# Altium footprint library DAQ.PcbLib: 28 footprints (part 1 of 2)
Each footprint in its own frame and in the unit in brackets; x right, y up, seen from the top. Pads: shape width x height; smd on the part's side, far side on the other; paste and mask are expansions set on the pad; w line width, h text height; cw(c..) or ccw(c..) is an arc to the next point about the centre after c.
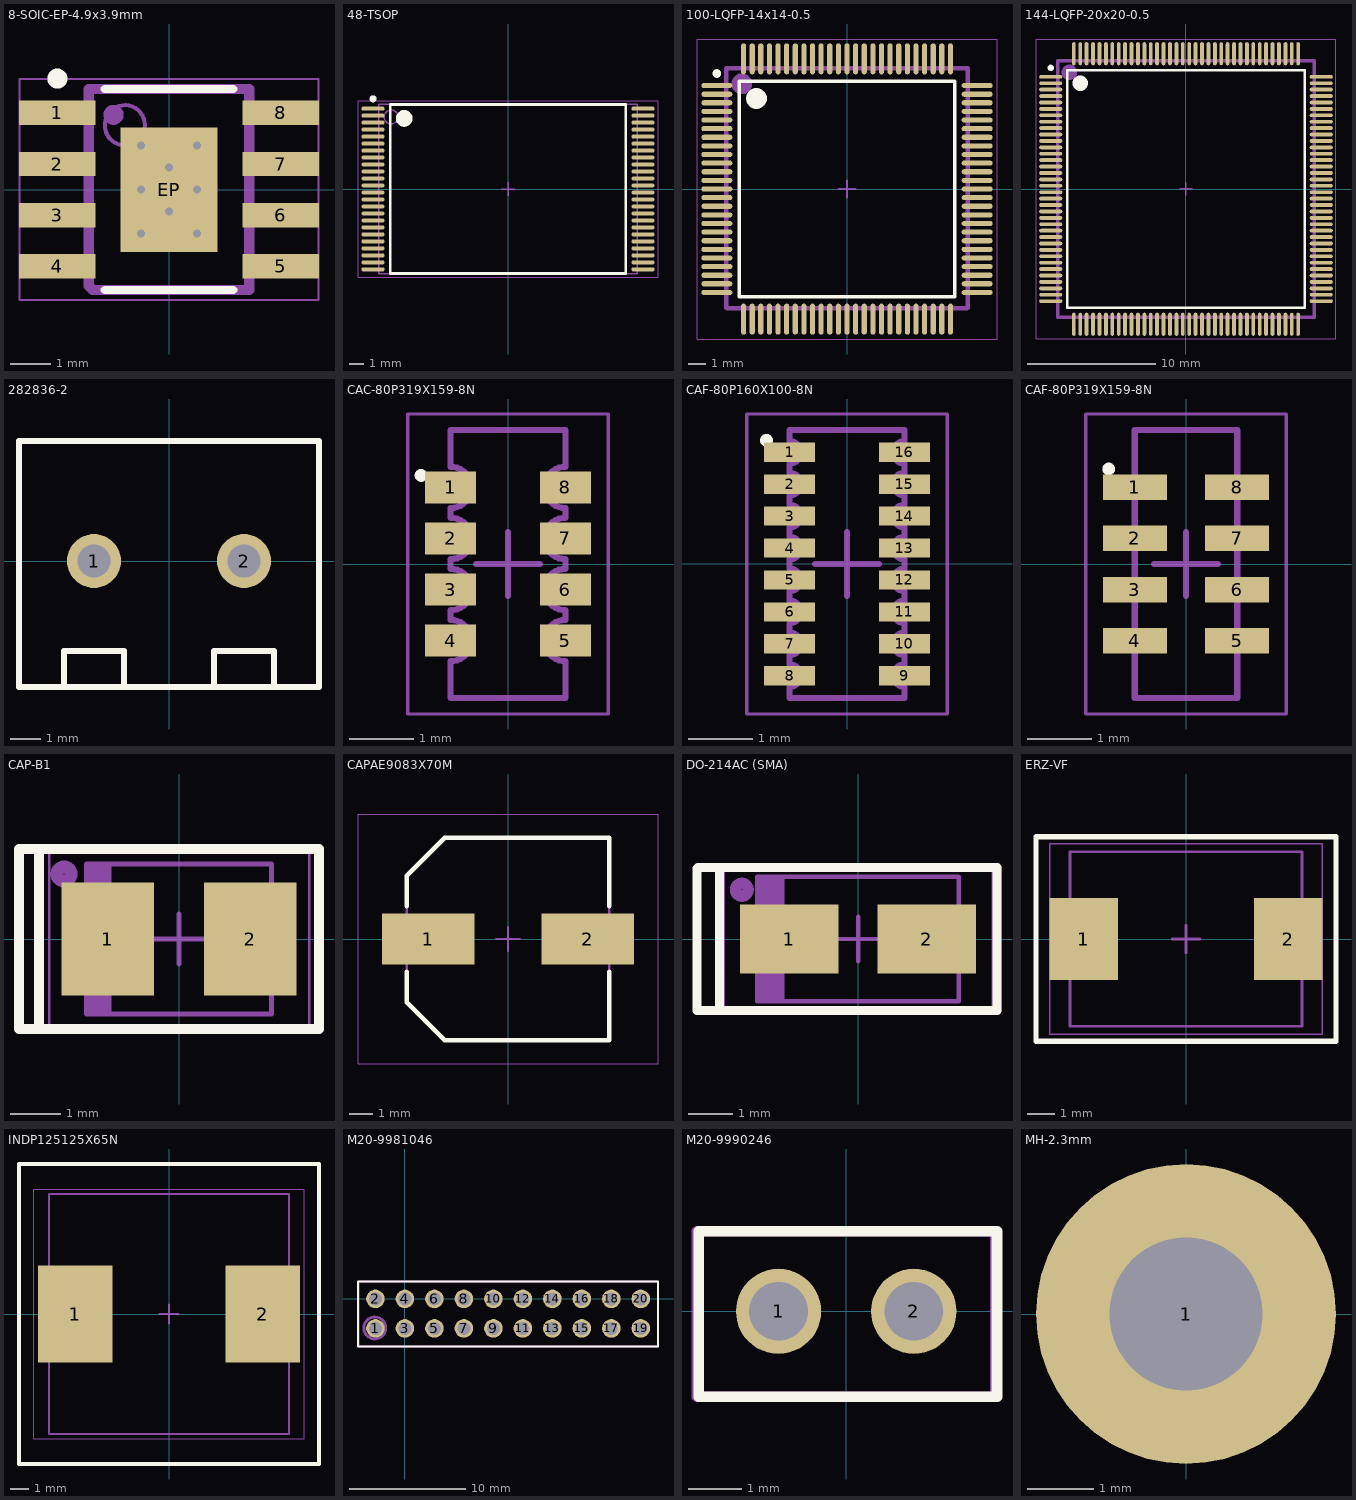
[diagram p0: the footprints below, top view; thin cyan lines are the x and y axes]

## 8-SOIC-EP-4.9x3.9mm [mm] "SOIC, 8-Leads, Body 4.90x3.90mm, Pitch 1.27mm, Thermal Pad 3.10x2.41mm, IPC Medium Density"
height 1.68
pads (9):
  rect 1.91x0.61 smd: 1(-2.78,1.905) 2(-2.78,0.635) 3(-2.78,-0.635) 4(-2.78,-1.905) 5(2.78,-1.905) 6(2.78,-0.635) 7(2.78,0.635) 8(2.78,1.905)
  rect 2.41x3.1 smd: EP(0,0)
via 0,-0.55 diameter 0.5 hole 0.2
via 0,0.55 diameter 0.5 hole 0.2
via 0.7,-1.1 diameter 0.5 hole 0.2
via -0.7,-1.1 diameter 0.5 hole 0.2
via 0.7,0 diameter 0.5 hole 0.2
via -0.7,0 diameter 0.5 hole 0.2
via 0.7,1.1 diameter 0.5 hole 0.2
via -0.7,1.1 diameter 0.5 hole 0.2
Top Overlay:
  circle w0.25: c-2.78,2.76 r0.125
  lines w0.2: -1.6,-2.5 1.6,-2.5 ; -1.6,2.5 1.6,2.5
Mechanical 13:
  circle w0.1: c-1.1,1.6 r0.5
  lines w0.1: -2,-2.5 2,-2.5 2,2.5 -2,2.5 -2,-2.5
Mechanical 15:
  lines w0.05: -3.725,-2.75 3.725,-2.75 3.725,2.75 -3.725,2.75 -3.725,-2.75
  lines w0.1: -0.5,0 0.5,0 ; 0,-0.5 0,0.5
Mechanical 29:
  circle w0.25: c-1.38,1.86 r0.125
  lines w0.254: -2,-2.4 -1.9,-2.5 2,-2.5 2,2.5 -2,2.5 -2,-2.4
  text ".Designator" at -0.7,1.1 h1.52
3D body: height 1.68, standoff 0.13, extent -2,-2.5 2,2.5

## 48-TSOP [mm] "TSOP, 48-Leads, Body 12.1x18.5mm, Pitch 0.5mm, IPC Medium Density"
height 1.2
pads (48):
  oval 1.65x0.3 smd: 1(-9.65,5.75) 2(-9.65,5.25) 3(-9.65,4.75) 4(-9.65,4.25) 5(-9.65,3.75) 6(-9.65,3.25) 7(-9.65,2.75) 8(-9.65,2.25) 9(-9.65,1.75) 10(-9.65,1.25) 11(-9.65,0.75) 12(-9.65,0.25) 13(-9.65,-0.25) 14(-9.65,-0.75) 15(-9.65,-1.25) 16(-9.65,-1.75) 17(-9.65,-2.25) 18(-9.65,-2.75) 19(-9.65,-3.25) 20(-9.65,-3.75) 21(-9.65,-4.25) 22(-9.65,-4.75) 23(-9.65,-5.25) 24(-9.65,-5.75) 25(9.65,-5.75) 26(9.65,-5.25) 27(9.65,-4.75) 28(9.65,-4.25) 29(9.65,-3.75) 30(9.65,-3.25) 31(9.65,-2.75) 32(9.65,-2.25) 33(9.65,-1.75) 34(9.65,-1.25) 35(9.65,-0.75) 36(9.65,-0.25) 37(9.65,0.25) 38(9.65,0.75) 39(9.65,1.25) 40(9.65,1.75) 41(9.65,2.25) 42(9.65,2.75) 43(9.65,3.25) 44(9.65,3.75) 45(9.65,4.25) 46(9.65,4.75) 47(9.65,5.25) 48(9.65,5.75)
Top Overlay:
  circle w0.25: c-9.65,6.45 r0.125
  circle w0.6: c-7.425,5.05 r0.3
  lines w0.2: -8.425,-6.05 -8.425,6.05 8.425,6.05 8.425,-6.05 -8.425,-6.05
Mechanical 13:
  circle w0.1: c-8.35,5.15 r0.5
  lines w0.1: -9.25,-6.05 -9.25,6.05 9.25,6.05 9.25,-6.05 -9.25,-6.05
Mechanical 15:
  lines w0.05: -10.725,-6.3 -10.725,6.3 10.725,6.3 10.725,-6.3 -10.725,-6.3
  lines w0.1: -0.5,0 0.5,0 ; 0,-0.5 0,0.5
3D body: height 1.2, standoff 0.05, extent -9.25,-6.05 9.25,6.05

## 100-LQFP-14x14-0.5 [mm] "Thin QFP, 100-Leads, Body 14x14mm, Pitch 0.5mm, IPC Medium Density"
height 1.6
pads (100):
  oval 1.8x0.3 smd: 1(-7.55,6) 2(-7.55,5.5) 3(-7.55,5) 4(-7.55,4.5) 5(-7.55,4) 6(-7.55,3.5) 7(-7.55,3) 8(-7.55,2.5) 9(-7.55,2) 10(-7.55,1.5) 11(-7.55,1) 12(-7.55,0.5) 13(-7.55,0) 14(-7.55,-0.5) 15(-7.55,-1) 16(-7.55,-1.5) 17(-7.55,-2) 18(-7.55,-2.5) 19(-7.55,-3) 20(-7.55,-3.5) 21(-7.55,-4) 22(-7.55,-4.5) 23(-7.55,-5) 24(-7.55,-5.5) 25(-7.55,-6) 51(7.55,-6) 52(7.55,-5.5) 53(7.55,-5) 54(7.55,-4.5) 55(7.55,-4) 56(7.55,-3.5) 57(7.55,-3) 58(7.55,-2.5) 59(7.55,-2) 60(7.55,-1.5) 61(7.55,-1) 62(7.55,-0.5) 63(7.55,0) 64(7.55,0.5) 65(7.55,1) 66(7.55,1.5) 67(7.55,2) 68(7.55,2.5) 69(7.55,3) 70(7.55,3.5) 71(7.55,4) 72(7.55,4.5) 73(7.55,5) 74(7.55,5.5) 75(7.55,6)
  oval 0.3x1.8 smd: 26(-6,-7.55) 27(-5.5,-7.55) 28(-5,-7.55) 29(-4.5,-7.55) 30(-4,-7.55) 31(-3.5,-7.55) 32(-3,-7.55) 33(-2.5,-7.55) 34(-2,-7.55) 35(-1.5,-7.55) 36(-1,-7.55) 37(-0.5,-7.55) 38(0,-7.55) 39(0.5,-7.55) 40(1,-7.55) 41(1.5,-7.55) 42(2,-7.55) 43(2.5,-7.55) 44(3,-7.55) 45(3.5,-7.55) 46(4,-7.55) 47(4.5,-7.55) 48(5,-7.55) 49(5.5,-7.55) 50(6,-7.55) 76(6,7.55) 77(5.5,7.55) 78(5,7.55) 79(4.5,7.55) 80(4,7.55) 81(3.5,7.55) 82(3,7.55) 83(2.5,7.55) 84(2,7.55) 85(1.5,7.55) 86(1,7.55) 87(0.5,7.55) 88(0,7.55) 89(-0.5,7.55) 90(-1,7.55) 91(-1.5,7.55) 92(-2,7.55) 93(-2.5,7.55) 94(-3,7.55) 95(-3.5,7.55) 96(-4,7.55) 97(-4.5,7.55) 98(-5,7.55) 99(-5.5,7.55) 100(-6,7.55)
Top Overlay:
  circle w0.25: c-7.55,6.7 r0.125
  circle w0.6: c-5.25,5.25 r0.3
  lines w0.2: -6.25,-6.25 -6.25,6.25 6.25,6.25 6.25,-6.25 -6.25,-6.25
Mechanical 13:
  circle w0.1: c-6.1,6.1 r0.5
  lines w0.1: -7,-7 -7,7 7,7 7,-7 -7,-7
Mechanical 15:
  lines w0.05: -8.7,-8.7 -8.7,8.7 8.7,8.7 8.7,-8.7 -8.7,-8.7
  lines w0.1: -0.5,0 0.5,0 ; 0,-0.5 0,0.5
Mechanical 29:
  circle w0.6: c-6.1,6.1 r0.3
  lines w0.254: -7,-6.9 -7,7 7,7 7,-6.9 -7,-6.9
  text ".Designator" at -3.3,-0.6 h1.52
3D body: height 1.6, standoff 0.05, extent -7,-7 7,7

## 144-LQFP-20x20-0.5 [mm] "Thin QFP, 144-Leads, Body 20x20mm, Pitch 0.5mm, IPC Medium Density"
height 1.6
pads (144):
  oval 1.8x0.3 smd: 1(-10.55,8.75) 2(-10.55,8.25) 3(-10.55,7.75) 4(-10.55,7.25) 5(-10.55,6.75) 6(-10.55,6.25) 7(-10.55,5.75) 8(-10.55,5.25) 9(-10.55,4.75) 10(-10.55,4.25) 11(-10.55,3.75) 12(-10.55,3.25) 13(-10.55,2.75) 14(-10.55,2.25) 15(-10.55,1.75) 16(-10.55,1.25) 17(-10.55,0.75) 18(-10.55,0.25) 19(-10.55,-0.25) 20(-10.55,-0.75) 21(-10.55,-1.25) 22(-10.55,-1.75) 23(-10.55,-2.25) 24(-10.55,-2.75) 25(-10.55,-3.25) 26(-10.55,-3.75) 27(-10.55,-4.25) 28(-10.55,-4.75) 29(-10.55,-5.25) 30(-10.55,-5.75) 31(-10.55,-6.25) 32(-10.55,-6.75) 33(-10.55,-7.25) 34(-10.55,-7.75) 35(-10.55,-8.25) 36(-10.55,-8.75) 73(10.55,-8.75) 74(10.55,-8.25) 75(10.55,-7.75) 76(10.55,-7.25) 77(10.55,-6.75) 78(10.55,-6.25) 79(10.55,-5.75) 80(10.55,-5.25) 81(10.55,-4.75) 82(10.55,-4.25) 83(10.55,-3.75) 84(10.55,-3.25) 85(10.55,-2.75) 86(10.55,-2.25) 87(10.55,-1.75) 88(10.55,-1.25) 89(10.55,-0.75) 90(10.55,-0.25) 91(10.55,0.25) 92(10.55,0.75) 93(10.55,1.25) 94(10.55,1.75) 95(10.55,2.25) 96(10.55,2.75) 97(10.55,3.25) 98(10.55,3.75) 99(10.55,4.25) 100(10.55,4.75) 101(10.55,5.25) 102(10.55,5.75) 103(10.55,6.25) 104(10.55,6.75) 105(10.55,7.25) 106(10.55,7.75) 107(10.55,8.25) 108(10.55,8.75)
  oval 0.3x1.8 smd: 37(-8.75,-10.55) 38(-8.25,-10.55) 39(-7.75,-10.55) 40(-7.25,-10.55) 41(-6.75,-10.55) 42(-6.25,-10.55) 43(-5.75,-10.55) 44(-5.25,-10.55) 45(-4.75,-10.55) 46(-4.25,-10.55) 47(-3.75,-10.55) 48(-3.25,-10.55) 49(-2.75,-10.55) 50(-2.25,-10.55) 51(-1.75,-10.55) 52(-1.25,-10.55) 53(-0.75,-10.55) 54(-0.25,-10.55) 55(0.25,-10.55) 56(0.75,-10.55) 57(1.25,-10.55) 58(1.75,-10.55) 59(2.25,-10.55) 60(2.75,-10.55) 61(3.25,-10.55) 62(3.75,-10.55) 63(4.25,-10.55) 64(4.75,-10.55) 65(5.25,-10.55) 66(5.75,-10.55) 67(6.25,-10.55) 68(6.75,-10.55) 69(7.25,-10.55) 70(7.75,-10.55) 71(8.25,-10.55) 72(8.75,-10.55) 109(8.75,10.55) 110(8.25,10.55) 111(7.75,10.55) 112(7.25,10.55) 113(6.75,10.55) 114(6.25,10.55) 115(5.75,10.55) 116(5.25,10.55) 117(4.75,10.55) 118(4.25,10.55) 119(3.75,10.55) 120(3.25,10.55) 121(2.75,10.55) 122(2.25,10.55) 123(1.75,10.55) 124(1.25,10.55) 125(0.75,10.55) 126(0.25,10.55) 127(-0.25,10.55) 128(-0.75,10.55) 129(-1.25,10.55) 130(-1.75,10.55) 131(-2.25,10.55) 132(-2.75,10.55) 133(-3.25,10.55) 134(-3.75,10.55) 135(-4.25,10.55) 136(-4.75,10.55) 137(-5.25,10.55) 138(-5.75,10.55) 139(-6.25,10.55) 140(-6.75,10.55) 141(-7.25,10.55) 142(-7.75,10.55) 143(-8.25,10.55) 144(-8.75,10.55)
Top Overlay:
  circle w0.6: c-8.25,8.25 r0.3
  circle w0.25: c-10.55,9.45 r0.125
  lines w0.2: -9.25,-9.25 9.25,-9.25 9.25,9.25 -9.25,9.25 -9.25,-9.25
Mechanical 13:
  circle w0.1: c-9.1,9.1 r0.5
  lines w0.1: -10,-10 10,-10 10,10 -10,10 -10,-10
Mechanical 15:
  lines w0.05: -11.7,-11.7 11.7,-11.7 11.7,11.7 -11.7,11.7 -11.7,-11.7
  lines w0.1: -0.5,0 0.5,0 ; 0,-0.5 0,0.5
Mechanical 29:
  circle w0.6: c-9.1,9.1 r0.3
  lines w0.254: -10,-10 -10,10 10,10 10,-10 -10,-10
  text ".Designator" at -2.3,-0.5 h1.52
3D body: height 1.6, standoff 0.05, extent -10,-10 10,10

## 282836-2 [mm]
pads (2):
  round 1.8 hole 1.1: 1(-2.5,0) 2(2.5,0)
Top Overlay:
  lines w0.2: -3.5,-4.2 -3.5,-3 -1.5,-3 -1.5,-4.2 ; 1.5,-4.2 1.5,-3 3.5,-3 3.5,-4.2 ; -5,-4.2 5,-4.2 5,4 -5,4 -5,-4.2
Mechanical 29:
  lines w0.2: -3.5,-4.2 -3.5,-3 -1.5,-3 -1.5,-4.2 ; 1.5,-4.2 1.5,-3 3.5,-3 3.5,-4.2 ; -5,-4.2 -5,4 5,4 5,-4.2 -5,-4.2
  text ".Designator" at -2.3,-0.4 h1.52
3D body: height 10.2, standoff -3.3, extent -5.6,-4.2 5,4

## CAC-80P319X159-8N [mm] "Chip Array, Concave, 8-Leads, Pitch 0.80mm,  Body 3.20x1.60mm,  IPC Medium Density"
height 0.6
pads (8):
  rect 0.8x0.5 smd: 1(-0.9,1.2) 2(-0.9,0.4) 3(-0.9,-0.4) 4(-0.9,-1.2) 5(0.9,-1.2) 6(0.9,-0.4) 7(0.9,0.4) 8(0.9,1.2)
Top Overlay:
  circle w0.1: c-1.362,1.388 r0.05
Mechanical 13:
  lines w0.1: -0.9,-2.1 -0.9,-1.525 ccw(c-0.9,-1.2) -0.9,-0.875 -0.9,-0.725 ccw(c-0.9,-0.4) -0.9,-0.075 -0.9,0.075 ccw(c-0.9,0.4) -0.9,0.725 -0.9,0.875 ccw(c-0.9,1.2) -0.9,1.525 -0.9,2.1 0.9,2.1 0.9,1.525 ccw(c0.9,1.2) 0.9,0.875 0.9,0.725 ccw(c0.9,0.4) 0.9,0.075 0.9,-0.075 ccw(c0.9,-0.4) 0.9,-0.725 0.9,-0.875 ccw(c0.9,-1.2) 0.9,-1.525 0.9,-2.1 -0.9,-2.1
Mechanical 15:
  lines w0.05: -1.57,-2.35 -1.57,2.35 1.57,2.35 1.57,-2.35 -1.57,-2.35
  lines w0.1: -0.5,0 0.5,0 ; 0,-0.5 0,0.5
3D body: height 0.6, standoff 0, extent -0.875,-1.7 0.875,1.7

## CAF-80P160X100-8N [mm]
height 0.5
pads (16):
  rect 0.8x0.3 smd: 1(-0.9,1.75) 2(-0.9,1.25) 3(-0.9,0.75) 4(-0.9,0.25) 5(-0.9,-0.25) 6(-0.9,-0.75) 7(-0.9,-1.25) 8(-0.9,-1.75) 9(0.9,-1.75) 10(0.9,-1.25) 11(0.9,-0.75) 12(0.9,-0.25) 13(0.9,0.25) 14(0.9,0.75) 15(0.9,1.25) 16(0.9,1.75)
Top Overlay:
  circle w0.1: c-1.262,1.938 r0.05
Mechanical 13:
  lines w0.1: -0.9,-2.1 0.9,-2.1 0.9,-1.925 cw(c0.9,-1.75) 0.9,-1.575 0.9,-1.425 cw(c0.9,-1.25) 0.9,-1.075 0.9,-0.925 cw(c0.9,-0.75) 0.9,-0.575 0.9,-0.425 cw(c0.9,-0.25) 0.9,-0.075 0.9,0.075 cw(c0.9,0.25) 0.9,0.425 0.9,0.575 cw(c0.9,0.75) 0.9,0.925 0.9,1.075 cw(c0.9,1.25) 0.9,1.425 0.9,1.575 cw(c0.9,1.75) 0.9,1.925 0.9,2.1 -0.9,2.1 -0.9,1.925 cw(c-0.9,1.75) -0.9,1.575 -0.9,1.425 cw(c-0.9,1.25) -0.9,1.075 -0.9,0.925 cw(c-0.9,0.75) -0.9,0.575 -0.9,0.425 cw(c-0.9,0.25) -0.9,0.075 -0.9,-0.075 cw(c-0.9,-0.25) -0.9,-0.425 -0.9,-0.575 cw(c-0.9,-0.75) -0.9,-0.925 -0.9,-1.075 cw(c-0.9,-1.25) -0.9,-1.425 -0.9,-1.575 cw(c-0.9,-1.75) -0.9,-1.925 -0.9,-2.1
Mechanical 15:
  lines w0.05: -1.57,-2.35 1.57,-2.35 1.57,2.35 -1.57,2.35 -1.57,-2.35
  lines w0.1: -0.5,0 0.5,0 ; 0,-0.5 0,0.5
3D body: height 0.5, standoff 0, extent -0.85,-2.1 0.85,2.1

## CAF-80P319X159-8N [mm] "Chip Array, Flat, 8-Leads, Pitch 0.80mm,  Body 3.20x1.60mm,  IPC Medium Density"
height 1
pads (8):
  rect 1x0.4 smd: 1(-0.8,1.2) 2(-0.8,0.4) 3(-0.8,-0.4) 4(-0.8,-1.2) 5(0.8,-1.2) 6(0.8,-0.4) 7(0.8,0.4) 8(0.8,1.2)
Top Overlay:
  circle w0.1: c-1.212,1.488 r0.05
Mechanical 13:
  lines w0.1: -0.8,-2.1 -0.8,2.1 0.8,2.1 0.8,-2.1 -0.8,-2.1
Mechanical 15:
  lines w0.05: -1.57,-2.35 -1.57,2.35 1.57,2.35 1.57,-2.35 -1.57,-2.35
  lines w0.1: -0.5,0 0.5,0 ; 0,-0.5 0,0.5
3D body: height 1, standoff 0, extent -0.875,-1.7 0.875,1.7

## CAP-B1 [mm] "Molded Capacitor, 2-Leads, Body 3.50x2.80mm, IPC Medium Density"
height 1.2
pads (2):
  rect 1.85x2.25 smd: 1(-1.425,0) 2(1.425,0)
Top Overlay:
  lines w0.2: -2.8,-1.8 -2.8,1.8 ; -2.8,-1.8 2.8,-1.8 2.8,1.8 -2.8,1.8 ; -2.8,-1.8 -3.2,-1.8 -3.2,1.8 -2.8,1.8
Mechanical 13:
  rectangle: -1.85,-1.5 -1.352,1.5
  lines w0.1: -1.85,-1.5 -1.85,1.5 1.85,1.5 1.85,-1.5 -1.85,-1.5
Mechanical 15:
  lines w0.05: -2.6,-1.75 -2.6,1.75 2.6,1.75 2.6,-1.75 -2.6,-1.75
  lines w0.1: -0.5,0 0.5,0 ; 0,-0.5 0,0.5
Mechanical 29:
  circle w0.254: c-2.3,1.3 r0.141
  lines w0.2: -2.8,-1.8 -2.8,1.8 2.8,1.8 2.8,-1.8 -2.8,-1.8
  text ".Designator" at -2.1,-0.8 h1.52
3D body: height 1.2, standoff 0, extent -1.85,-1.5 1.85,1.5

## CAPAE9083X70M [mm] "Aluminum Electrolytic Capacitor, Body 8.30x8.30x7.00mm, IPC Low Density"
height 7
pads (2):
  rect 3.9x2.15 smd: 1(-3.35,0) 2(3.35,0)
Top Overlay:
  lines w0.2: -4.25,-1.375 -4.25,-2.663 -2.663,-4.25 4.25,-4.25 4.25,-1.375 ; -4.25,1.375 -4.25,2.662 -2.663,4.25 4.25,4.25 4.25,1.375
Mechanical 13:
  lines w0.1: -4.25,-2.663 -4.25,2.662 -2.663,4.25 4.25,4.25 4.25,-4.25 -2.663,-4.25 -4.25,-2.663
Mechanical 15:
  lines w0.05: -6.3,-5.25 6.3,-5.25 6.3,5.25 -6.3,5.25 -6.3,-5.25
  lines w0.1: -0.5,0 0.5,0 ; 0,-0.5 0,0.5
3D body: height 7, standoff 0, extent -4.25,-4.25 4.245,4.248
3D body: height 2.34, standoff 0, extent -4.25,-4.25 4.25,4.25

## DO-214AC (SMA) [mm] "Molded Diode, 2-Leads, Body 4.25x2.67mm, IPC Medium Density"
height 2.29
pads (2):
  rect 2.2x1.55 smd: 1(-1.535,0) 2(1.535,0)
Top Overlay:
  lines w0.2: -3.1,-1.6 -3.1,1.6 ; -3.1,-1.6 3.1,-1.6 3.1,1.6 -3.1,1.6 ; -3.1,-1.6 -3.6,-1.6 -3.6,1.575 -3.575,1.6 -3.1,1.6
Mechanical 13:
  rectangle: -2.25,-1.395 -1.645,1.395
  lines w0.1: -2.25,-1.395 2.25,-1.395 2.25,1.395 -2.25,1.395 -2.25,-1.395
Mechanical 15:
  lines w0.05: -3,-1.65 3,-1.65 3,1.65 -3,1.65 -3,-1.65
  lines w0.1: -0.5,0 0.5,0 ; 0,-0.5 0,0.5
Mechanical 29:
  circle w0.254: c-2.6,1.1 r0.141
  lines w0.2: -3.1,-1.6 3.1,-1.6 3.1,1.6 -3.1,1.6 -3.1,-1.6
  text ".Designator" at -1.9,-0.8 h1.52
3D body: height 2.29, standoff 0, extent -2.25,-1.395 2.25,1.395

## ERZ-VF [mm] "ZNR Transient/Surge Absorber, SMD Type"
height 3.5
pads (2):
  rect 2.5x3 smd: 1(-3.75,0) 2(3.75,0)
Top Overlay:
  lines w0.2: -5.5,-3.75 5.5,-3.75 5.5,3.75 -5.5,3.75 -5.5,-3.75
Mechanical 13:
  lines w0.1: -4.25,-3.2 4.25,-3.2 4.25,3.2 -4.25,3.2 -4.25,-3.2
Mechanical 15:
  lines w0.05: -5,-3.5 5,-3.5 5,3.5 -5,3.5 -5,-3.5
  lines w0.1: -0.5,0 0.5,0 ; 0,-0.5 0,0.5
3D body: height 3.5, standoff 0, extent -4.25,-3.2 4.25,3.2

## INDP125125X65N [mm] "Precision Wire Wound Inductor, 2-Leads, Body 12.50x12.50mm, IPC Medium Density"
height 6.5
pads (2):
  rect 4x5.15 smd: 1(-5,0) 2(5,0)
Top Overlay:
  lines w0.2: -8,-8 -8,8 8,8 8,-8 -8,-8
Mechanical 13:
  lines w0.1: -6.4,-6.4 6.4,-6.4 6.4,6.4 -6.4,6.4 -6.4,-6.4
Mechanical 15:
  lines w0.05: -7.225,-6.65 7.225,-6.65 7.225,6.65 -7.225,6.65 -7.225,-6.65
  lines w0.1: -0.5,0 0.5,0 ; 0,-0.5 0,0.5
3D body: height 6.5, standoff 0, extent -6.4,-6.4 6.4,6.4

## M20-9981046 [mm]
pads (20):
  round 1.6 hole 1.1: 1(-2.54,-2.54) 2(-2.54,0) 3(0,-2.54) 4(0,0) 5(2.54,-2.54) 6(2.54,0) 7(5.08,-2.54) 8(5.08,0) 9(7.62,-2.54) 10(7.62,0) 11(10.16,-2.54) 12(10.16,0) 13(12.7,-2.54) 14(12.7,0) 15(15.24,-2.54) 16(15.24,0) 17(17.78,-2.54) 18(17.78,0) 19(20.32,-2.54) 20(20.32,0)
Top Overlay:
  lines w0.2: -4.04,-4.1 -4.04,1.5 21.8,1.5 21.8,-4.1 -4.04,-4.1
Mechanical 29:
  circle w0.254: c-2.6,-2.5 r0.943
  lines w0.2: -4,-4.1 21.8,-4.1 21.8,1.5 -4,1.5 -4,-4.1
  text ".Designator" at 5.3,-1.9 h1.52
3D body: height 7.13, standoff -2.91, extent -3.74,-3.78 -1.24,1.3
3D body: height 7.13, standoff -2.91, extent -1.2,-3.78 1.3,1.3
3D body: height 7.13, standoff -2.91, extent 3.88,-3.78 6.38,1.3
3D body: height 7.13, standoff -2.91, extent 1.34,-3.78 3.84,1.3
3D body: height 7.13, standoff -2.91, extent 11.5,-3.78 14,1.3
3D body: height 7.13, standoff -2.91, extent 14.04,-3.78 16.54,1.3
3D body: height 7.13, standoff -2.91, extent 8.96,-3.78 11.46,1.3
3D body: height 7.13, standoff -2.91, extent 6.42,-3.78 8.92,1.3
3D body: height 7.13, standoff -2.91, extent 19.12,-3.78 21.62,1.3
3D body: height 7.13, standoff -2.91, extent 16.58,-3.78 19.08,1.3

## M20-9990246 [mm]
pads (2):
  round 1.6 hole 1.1: 1(-1.27,0) 2(1.27,0)
Top Overlay:
  lines w0.2: -2.77,-1.6 2.83,-1.6 2.83,1.5 -2.77,1.5 -2.77,-1.6
Mechanical 29:
  lines w0.2: -2.8,-1.6 2.8,-1.6 2.8,1.5 -2.8,1.5 -2.8,-1.6
  text ".Designator" at -2.2,-0.6 h1.52
3D body: height 7.13, standoff -2.91, extent -2.51,-1.3 2.57,1.2

## MH-2.3mm [mm]
pads (1):
  round 4.5 hole 2.3 mask+0: 1(0,0)